# Altium footprint library DF20160711.PcbLib: 86 footprints (part 2 of 6)
Each footprint in its own frame and in the unit in brackets; x right, y up, seen from the top. Pads: shape width x height; smd on the part's side, far side on the other; paste and mask are expansions set on the pad; w line width, h text height; cw(c..) or ccw(c..) is an arc to the next point about the centre after c.
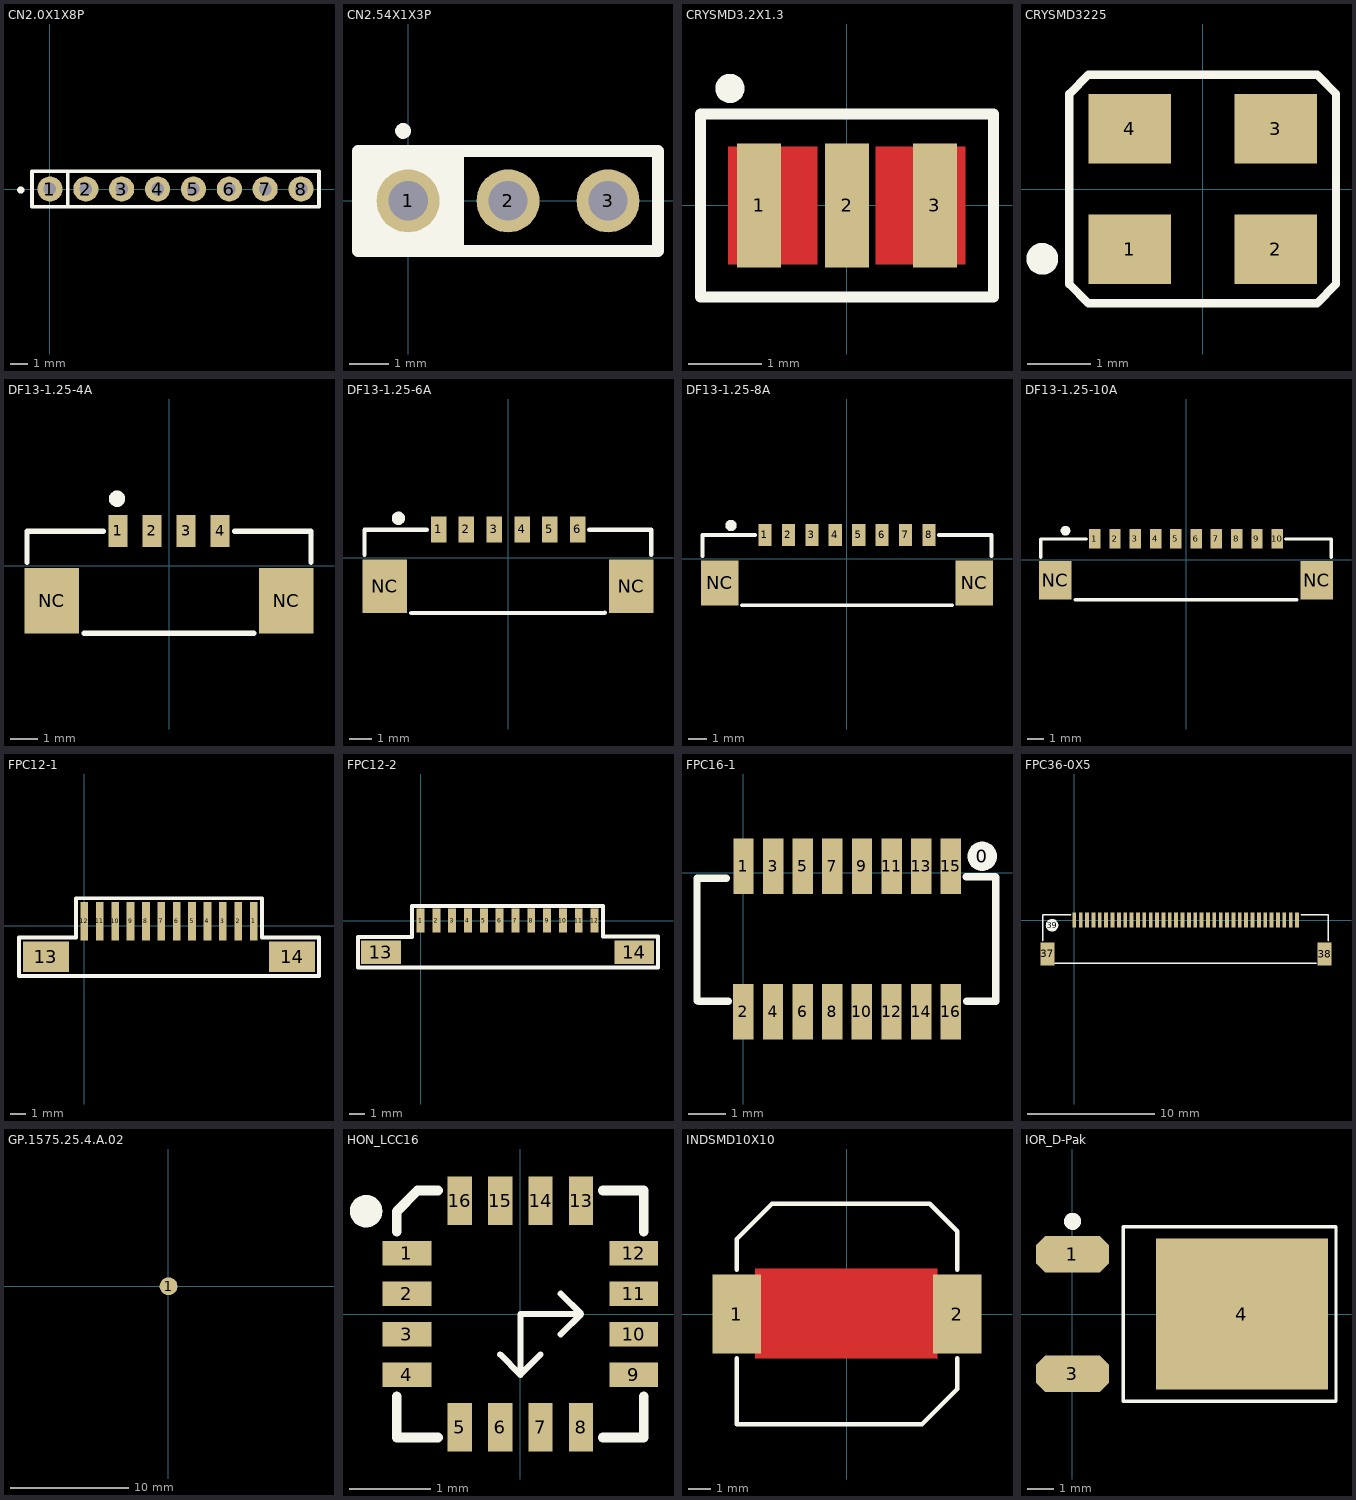
[diagram p1: the footprints below, top view; thin cyan lines are the x and y axes]

## CN2.0X1X8P [mm]
pads (8):
  round 1.4 hole 0.7: 1(0,0) 2(2,0) 3(4,0) 4(6,0) 5(8,0) 6(10,0) 7(12,0) 8(14,0)
Top Overlay:
  circle w0.2: c-1.625,-0.06 r0.1
  lines w0.2: 1,-1 1,1 ; -1,-1 -1,1 15,1 15,-1 -1,-1

## CN2.54X1X3P [mm]
height 1.3
pads (3):
  round 1.6 hole 1: 1(0,0) 2(2.54,0) 3(5.08,0)
Top Overlay:
  circle w0.2: c-0.127,1.778 r0.1
  region: 1.27,-1.27 1.27,1.27 -1.275,1.27 -1.275,-1.27
  lines w0.3: 1.27,-1.27 1.27,1.27 ; -1.27,-1.27 -1.27,1.27 6.35,1.27 6.35,-1.27 -1.27,-1.27

## CRYSMD3.2X1.3 [mm]
pads (3):
  rect 0.6x1.7 smd: 1(-1.2,0) 2(0,0) 3(1.2,0)
Top Layer:
  pour cut-out: -1.625,0.8 -0.406,0.8 -0.406,-0.8 -1.625,-0.8
  pour cut-out: 0.394,0.8 1.613,0.8 1.613,-0.8 0.394,-0.8
Top Overlay:
  circle w0.2: c-1.6,1.6 r0.1
  lines w0.15: -2,-1.25 -2,1.25 2,1.25 2,-1.25 -2,-1.25

## CRYSMD3225 [mm]
height 0.8
pads (4):
  rect 1.3x1.1 smd: 1(-1.15,-0.95) 2(1.15,-0.95) 3(1.15,0.95) 4(-1.15,0.95)
Top Overlay:
  circle w0.3: c-2.525,-1.1 r0.1
  lines w0.13: -2.1,1.5 -1.8,1.8 1.8,1.8 2.1,1.5 2.1,-1.5 1.8,-1.8 -1.8,-1.8 -2.1,-1.5 -2.1,1.5

## DF13-1.25-4A [mm] "佳能"
pads (6):
  rect 0.7x1.18 smd: 1(-1.875,1.28) 2(-0.625,1.28) 3(0.625,1.28) 4(1.875,1.28)
  rect 2x2.4 smd: NC(-4.3,-1.28) NC(4.3,-1.28)
Top Overlay:
  circle w0.3: c-1.906,2.459 r0.15
  lines w0.2: -5.207,0.135 -5.207,1.27 -2.405,1.27 ; -3.1,-2.48 3.1,-2.48 ; 2.405,1.27 5.207,1.27 5.207,0.135

## DF13-1.25-6A [mm]
pads (8):
  rect 0.7x1.18 smd: 1(-3.119,1.28) 2(-1.869,1.28) 3(-0.619,1.28) 4(0.631,1.28) 5(1.881,1.28) 6(3.131,1.28)
  rect 2x2.4 smd: NC(-5.544,-1.28) NC(5.544,-1.28)
Top Overlay:
  circle w0.3: c-4.927,1.778 r0.15
  lines w0.2: -6.451,0.135 -6.451,1.27 -3.649,1.27 ; -4.344,-2.48 4.356,-2.476 ; 3.658,1.27 6.439,1.27 6.439,0.135

## DF13-1.25-8A [mm]
pads (10):
  rect 0.7x1.18 smd: 1(-4.375,1.28) 2(-3.125,1.28) 3(-1.875,1.28) 4(-0.625,1.28) 5(0.625,1.28) 6(1.875,1.28) 7(3.125,1.28) 8(4.375,1.28)
  rect 2x2.4 smd: NC(-6.8,-1.28) NC(6.8,-1.28)
Top Overlay:
  circle w0.3: c-6.183,1.778 r0.15
  lines w0.2: -7.707,0.135 -7.707,1.27 -4.905,1.27 ; -5.6,-2.48 5.6,-2.48 ; 4.905,1.27 7.707,1.27 7.707,0.135

## DF13-1.25-10A [mm]
pads (12):
  rect 0.7x1.18 smd: 1(-5.625,1.28) 2(-4.375,1.28) 3(-3.125,1.28) 4(-1.875,1.28) 5(-0.625,1.28) 6(0.625,1.28) 7(1.875,1.28) 8(3.125,1.28) 9(4.375,1.28) 10(5.625,1.28)
  rect 2x2.4 smd: NC(-8.05,-1.28) NC(8.05,-1.28)
Top Overlay:
  circle w0.3: c-7.433,1.778 r0.15
  lines w0.2: -8.957,0.135 -8.957,1.27 -6.155,1.27 ; -6.85,-2.48 6.85,-2.48 ; 6.155,1.27 8.957,1.27 8.957,0.135

## FPC12-1 [mm]
pads (14):
  rect 0.5x2.5 smd: 1(11,0.3) 2(10,0.3) 3(9,0.3) 4(8,0.3) 5(7,0.3) 6(6,0.3) 7(5,0.3) 8(4,0.3) 9(3,0.3) 10(2,0.3) 11(1,0.3) 12(0,0.3)
  rect 3x2 smd: 13(-2.5,-2) 14(13.5,-2)
Top Overlay:
  lines w0.254: -4.25,-3.25 -4.25,-0.75 -0.55,-0.75 -0.55,1.8 11.55,1.8 11.55,-0.75 15.25,-0.75 15.25,-3.25 -4.25,-3.25

## FPC12-2 [mm]
pads (14):
  rect 0.5x1.5 smd: 1(0,0) 2(1,0) 3(2,0) 4(3,0) 5(4,0) 6(5,0) 7(6,0) 8(7,0) 9(8,0) 10(9,0) 11(10,0) 12(11,0)
  rect 2.5x1.5 smd: 13(-2.5,-2) 14(13.5,-2)
Top Overlay:
  lines w0.254: -3.952,-2.965 15.01,-2.965 15.01,-1.012 11.539,-1.012 11.539,0.922 -0.528,0.922 -0.528,-1.025 -3.952,-1.025 -3.952,-2.965

## FPC16-1 [mm]
pads (17):
  round 0.8 on Top Overlay: 0(6.447,0.446)
  rect 0.55x1.5 smd: 1(0,0.178) 2(-0.001,-3.754) 3(0.8,0.178) 4(0.799,-3.754) 5(1.6,0.178) 6(1.599,-3.754) 7(2.4,0.178) 8(2.399,-3.754) 9(3.2,0.178) 10(3.199,-3.754) 11(4,0.178) 12(3.999,-3.754) 13(4.8,0.178) 14(4.799,-3.754) 15(5.6,0.178) 16(5.599,-3.754)
Top Overlay:
  lines w0.2: -1.255,-3.451 -1.255,-0.151 ; -1.254,-0.153 -0.461,-0.153 ; -1.206,-3.469 -0.413,-3.469 ; 6.012,-0.105 6.804,-0.105 ; 6.027,-3.464 6.82,-3.464 ; 6.808,-3.423 6.808,-0.123

## FPC36-0X5 [mm]
pads (39):
  rect 0.3x1.2 smd: 1(0,0) 2(0.5,0) 3(1,0) 4(1.5,0) 5(2,0) 6(2.5,0) 7(3,0) 8(3.5,0) 9(4,0) 10(4.5,0) 11(5,0) 12(5.5,0) 13(6,0) 14(6.5,0) 15(7,0) 16(7.5,0) 17(8,0) 18(8.5,0) 19(9,0) 20(9.5,0) 21(10,0) 22(10.5,0) 23(11,0) 24(11.5,0) 25(12,0) 26(12.5,0) 27(13,0) 28(13.5,0) 29(14,0) 30(14.5,0) 31(15,0) 32(15.5,0) 33(16,0) 34(16.5,0) 35(17,0) 36(17.5,0)
  rect 1.1x1.8 smd: 37(-2.112,-2.666) 38(19.66,-2.68)
  round 1 on Top Overlay: 39(-1.748,-0.409)
Top Overlay:
  lines w0.13: -2.485,-1.638 -2.485,0.411 -0.277,0.411 ; -1.539,-3.386 18.983,-3.386 ; 17.83,0.413 19.945,0.413 19.945,-1.605

## GP.1575.25.4.A.02 [mm]
pads (1):
  round 1.5 smd: 1(0.027,-0.006)
Bottom Overlay:
  lines w0.254: -12.573,-14.979 -12.573,10.221 ; -12.5,-14.979 12.7,-14.979 12.7,10.221 ; -12.5,10.294 12.7,10.294 ; -1.27,1.277 -1.27,-1.263 1.27,-1.263 1.27,1.277 ; -1.143,1.277 1.143,1.277

## HON_LCC16 [mm]
height 0.8
pads (16):
  rect 0.6x0.3 smd: 1(-1.4,0.75) 2(-1.4,0.25) 3(-1.4,-0.25) 4(-1.4,-0.75) 9(1.4,-0.75) 10(1.4,-0.25) 11(1.4,0.25) 12(1.4,0.75)
  rect 0.3x0.6 smd: 5(-0.75,-1.4) 6(-0.25,-1.4) 7(0.25,-1.4) 8(0.75,-1.4) 13(0.75,1.4) 14(0.25,1.4) 15(-0.25,1.4) 16(-0.75,1.4)
Top Overlay:
  circle w0.2: c-1.905,1.27 r0.1
  lines w0.076: -0.25,-0.5 0,-0.75 ; 0.25,-0.5 0,-0.75 ; 0.5,-0.25 0.75,0 ; 0.5,0.25 0.75,0 ; 0,-0.75 0,0 0.75,0
  lines w0.12: -1.525,-1.017 -1.525,-1.525 -1.017,-1.525 ; -1.525,1.017 -1.525,1.269 -1.269,1.525 -1.017,1.525 ; 1.017,-1.525 1.525,-1.525 1.525,-1.017 ; 1.017,1.525 1.525,1.525 1.525,1.017

## INDSMD10X10 [mm]
height 1.3
pads (2):
  rect 2.2x3.6 smd: 1(-5,0) 2(5,0)
Top Layer:
  pour cut-out: -4.15,2.05 4.1,2.05 4.1,-2.05 4.05,-2 -4.15,-2
Top Overlay:
  lines w0.2: -5,-2 -5,-5 3.4,-5 5,-3.4 5,-2 ; -5,2 -5,3.4 -3.4,5 3.75,5 5,3.75 5,2

## IOR_D-Pak [mm]
height 2.39
pads (3):
  oct 2.8x1.4 smd: 1(0,2.3) 3(0,-2.3)
  rect 6.6x5.8 smd: 4(6.5,0)
Top Overlay:
  circle w0.4: c0,3.556 r0.127
  lines w0.13: 1.95,-3.35 1.95,3.35 10.112,3.35 10.112,-3.35 1.95,-3.35